# Altium schematic symbol library ORDER其它.SchLib: 32 symbols
Pins are listed as number, name and electrical type; pins without a type are passive.

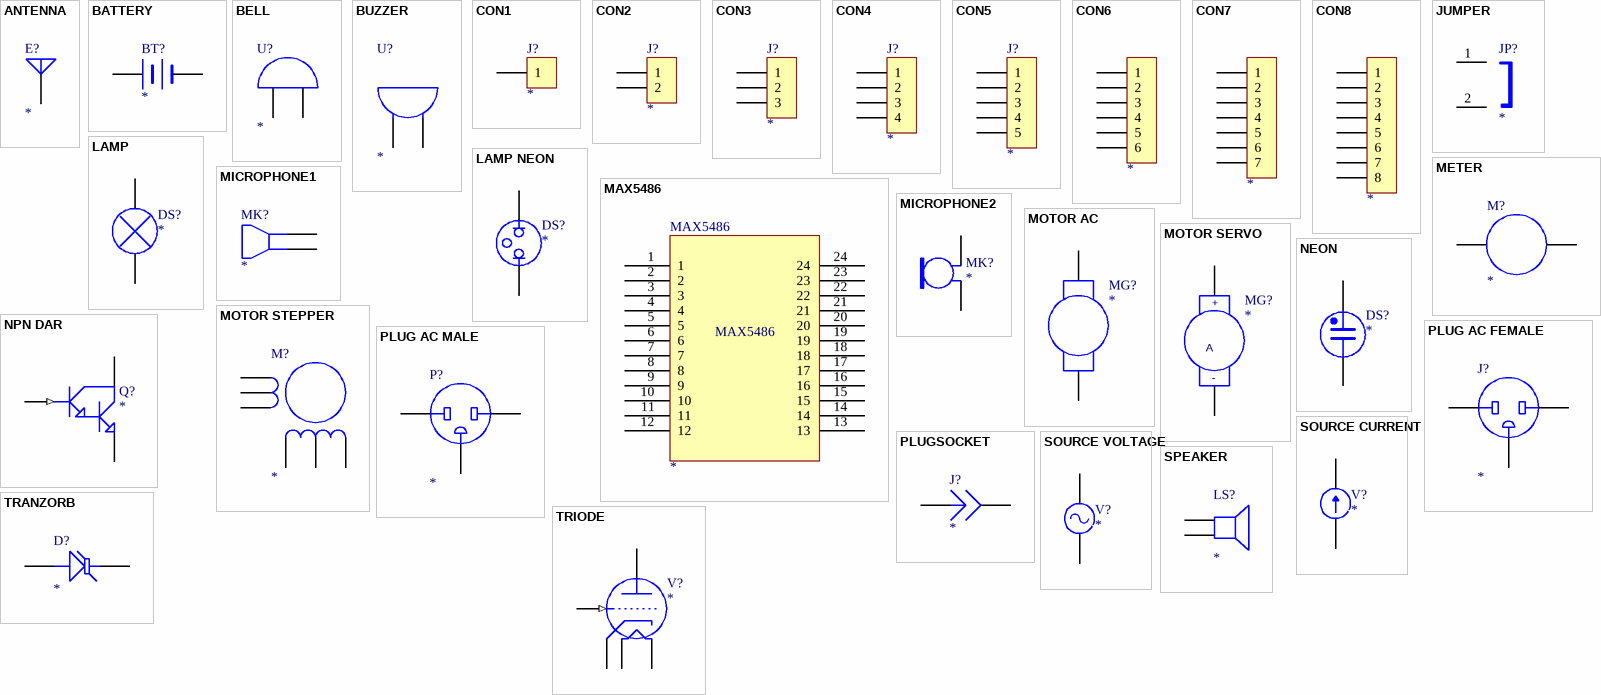
[diagram p0: symbols ANTENNA to TRIODE]

## ANTENNA
designator E?
Generic Antenna
pins: 1 A

## BATTERY
designator BT?
Battery
pins: 1 +, 2 -

## BELL
designator U?
Bell
pins: 1 A, 2 B

## BUZZER
designator U?
Buzzer
pins: 1 A, 2 B

## CON1
designator J?
Connector
pins: 1

## CON2
designator J?
Connector
pins: 1, 2

## CON3
designator J?
Connector
pins: 1, 2, 3

## CON4
designator J?
Connector
pins: 1, 2, 3, 4

## CON5
designator J?
Connector
pins: 1, 2, 3, 4, 5

## CON6
designator ?
pins: 1, 2, 3, 4, 5, 6

## CON7
designator ?
pins: 1, 2, 3, 4, 5, 6, 7

## CON8
designator ?
pins: 1, 2, 3, 4, 5, 6, 7, 8

## JUMPER
designator JP?
Jumper
footprint RAD0.2
pins: 1, 2

## LAMP
designator DS?
pins: 1, 2

## LAMP NEON
designator DS?
pins: 1, 2

## MAX5486
designator MAX5486
footprint TSSOP24
pins: 1, 2, 3, 4, 5, 6, 7, 8, 9, 10, 11, 12, 13, 14, 15, 16, 17, 18, 19, 20, 21, 22, 23, 24

## METER
designator M?
pins: 1, 2

## MICROPHONE1
designator MK?
Microphone
pins: 1, 2

## MICROPHONE2
designator MK?
Microphone
pins: 1, 2

## MOTOR AC
designator MG?
pins: 1, 2

## MOTOR SERVO
designator MG?
pins: 1 +, 2 -
text: A

## MOTOR STEPPER
designator M?
pins: 1, 2, 3, 4, 5, 6

## NEON
designator DS?
pins: 1, 2

## NPN DAR
designator Q?
NPN Darlington Transistor
pins: 1 B (in), 2 C, 3 E

## PLUG AC FEMALE
designator J?
pins: 1 A, 2 B, 3 GND

## PLUG AC MALE
designator P?
pins: 1 A, 2 B, 3 GND

## PLUGSOCKET
designator J?
pins: 1, 2

## SOURCE CURRENT
designator V?
pins: 1, 2

## SOURCE VOLTAGE
designator V?
pins: 1, 2

## SPEAKER
designator LS?
pins: 1, 2

## TRANZORB
designator D?
pins: 1 A, 2 K

## TRIODE
designator V?
Thyratron
pins: 1 GRID (in), 2 PLATE, 3 CATHODE, 4 FILAMENT1, 5 FILAMENT2